# EAGLE library part DSSLOT (library dslparts)
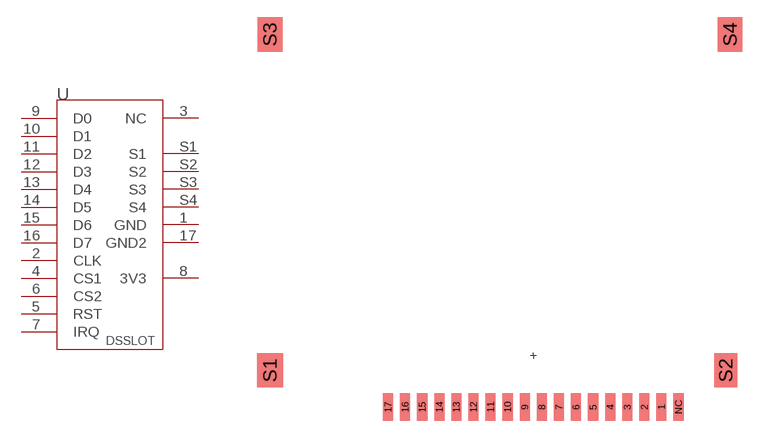
[diagram p1: symbol with the pads of DS; footprint DS]

Designator prefix -

## DSSLOT  [DS]
1  GND
2  CLK
3  NC
4  CS1
5  RST
6  CS2
7  IRQ
8  3V3
9  D0
10  D1
11  D2
12  D3
13  D4
14  D5
15  D6
16  D7
17  GND2
S1  S1
S2  S2
S3  S3
S4  S4

## Footprint DS (pad centres in mm)
smd 0.889 x 2.413: 1 11.25,-4.5; 2 9.75,-4.5; 3 8.25,-4.5; 4 6.75,-4.5; 5 5.25,-4.5; 6 3.75,-4.5; 7 2.25,-4.5; 8 0.75,-4.5; 9 -0.75,-4.5; 10 -2.25,-4.5; 11 -3.75,-4.5; 12 -5.25,-4.5; 13 -6.75,-4.5; 14 -8.25,-4.5; 15 -9.75,-4.5; 16 -11.25,-4.5; 17 -12.75,-4.5; NC 12.75,-4.5
smd 2.286 x 2.997: S1 -23.114,-1.27
smd 2.032 x 2.997: S2 16.891,-1.27
smd 2.184 x 3.023: S3 -23.114,28.194
smd 2.159 x 3.023: S4 17.272,28.194